# Altium schematic symbol library 82 RESISTORS_THD_AX14_8mm_S.SchLib: 9 symbols
Pins are listed as number, name and electrical type; pins without a type are passive.

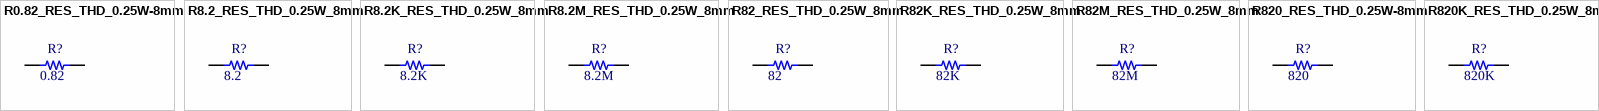
[diagram p0: symbols R0.82_RES_THD_0.25W-8mm to R820K_RES_THD_0.25W_8mm]

## R0.82_RES_THD_0.25W-8mm
designator R?  value 0.82  (hidden comment: *)
RESISTOR_0.82Ohm_THD_0.25W-8mm; Pacakge: THT; Rating: 0.25W; Type: 5%
footprint R0.82_RES_THD_AX14_0.25W (RESISTOR 0.82 Ohm  THD AX14 0.25W Length  8mm)
pins: 1, 2

## R8.2_RES_THD_0.25W_8mm
designator R?  value 8.2  (hidden comment: *)
RESISTOR_8.2Ohm_THD_0.25W-8mm; Pacakge: THT; Rating: 0.25W; Type: 5%
footprint R8.2_RES_THD_AX14_0.25W (RESISTOR 8.2 Ohm  THD AX14 0.25W Length  8mm)
pins: 1, 2

## R8.2K_RES_THD_0.25W_8mm
designator R?  value 8.2K  (hidden comment: *)
RESISTOR_8.2KOhm_THD_0.25W-8mm; Pacakge: THT; Rating: 0.25W; Type: 5%
footprint R8.2K_RES_THD_AX14_0.25W (RESISTOR 8.2K Ohm  THD AX14 0.25W Length  8mm)
pins: 1, 2

## R8.2M_RES_THD_0.25W_8mm
designator R?  value 8.2M  (hidden comment: *)
RESISTOR_8.2MOhm_THD_0.25W-8mm; Pacakge: THT; Rating: 0.25W; Type: 5%
footprint R8.2M_RES_THD_AX14_0.25W (RESISTOR 8.2M Ohm  THD AX14 0.25W Length  8mm)
pins: 1, 2

## R82_RES_THD_0.25W_8mm
designator R?  value 82  (hidden comment: *)
RESISTOR_82Ohm_THD_0.25W-8mm; Pacakge: THT; Rating: 0.25W; Type: 5%; Parameter 1: *
footprint R82_RES_THD_AX14_0.25W (RESISTOR 82 Ohm  THD AX14 0.25W Length  8mm)
pins: 1, 2

## R82K_RES_THD_0.25W_8mm
designator R?  value 82K  (hidden comment: *)
RESISTOR_82KOhm_THD_0.25W-8mm; Pacakge: THT; Rating: 0.25W; Type: 5%
footprint R82K_RES_THD_AX14_0.25W (RESISTOR 82K Ohm  THD AX14 0.25W Length  8mm)
pins: 1, 2

## R82M_RES_THD_0.25W_8mm
designator R?  value 82M  (hidden comment: *)
RESISTOR_82MOhm_THD_0.25W-8mm; Pacakge: THT; Rating: 0.25W; Type: 5%
footprint R82M_RES_THD_AX14_0.25W (RESISTOR 82M Ohm  THD AX14 0.25W Length  8mm)
pins: 1, 2

## R820_RES_THD_0.25W-8mm
designator R?  value 820  (hidden comment: *)
RESISTOR_820Ohm_THD_0.25W-8mm; Pacakge: THT; Rating: 0.25W; Type: 5%; Parameter 1: *
footprint R820_RES_THD_AX14_0.25W (RESISTOR 820 Ohm  THD AX14 0.25W Length  8mm)
pins: 1, 2

## R820K_RES_THD_0.25W_8mm
designator R?  value 820K  (hidden comment: *)
RESISTOR_820KOhm_THD_0.25W-8mm; Pacakge: THT; Rating: 0.25W; Type: 5%
footprint R820K_RES_THD_AX14_0.25W (RESISTOR 820K Ohm  THD AX14 0.25W Length  8mm)
pins: 1, 2